# Altium integrated library TI Power Management DC-DC Controller (External Switch).IntLib: 349 symbols (part 8 of 28)
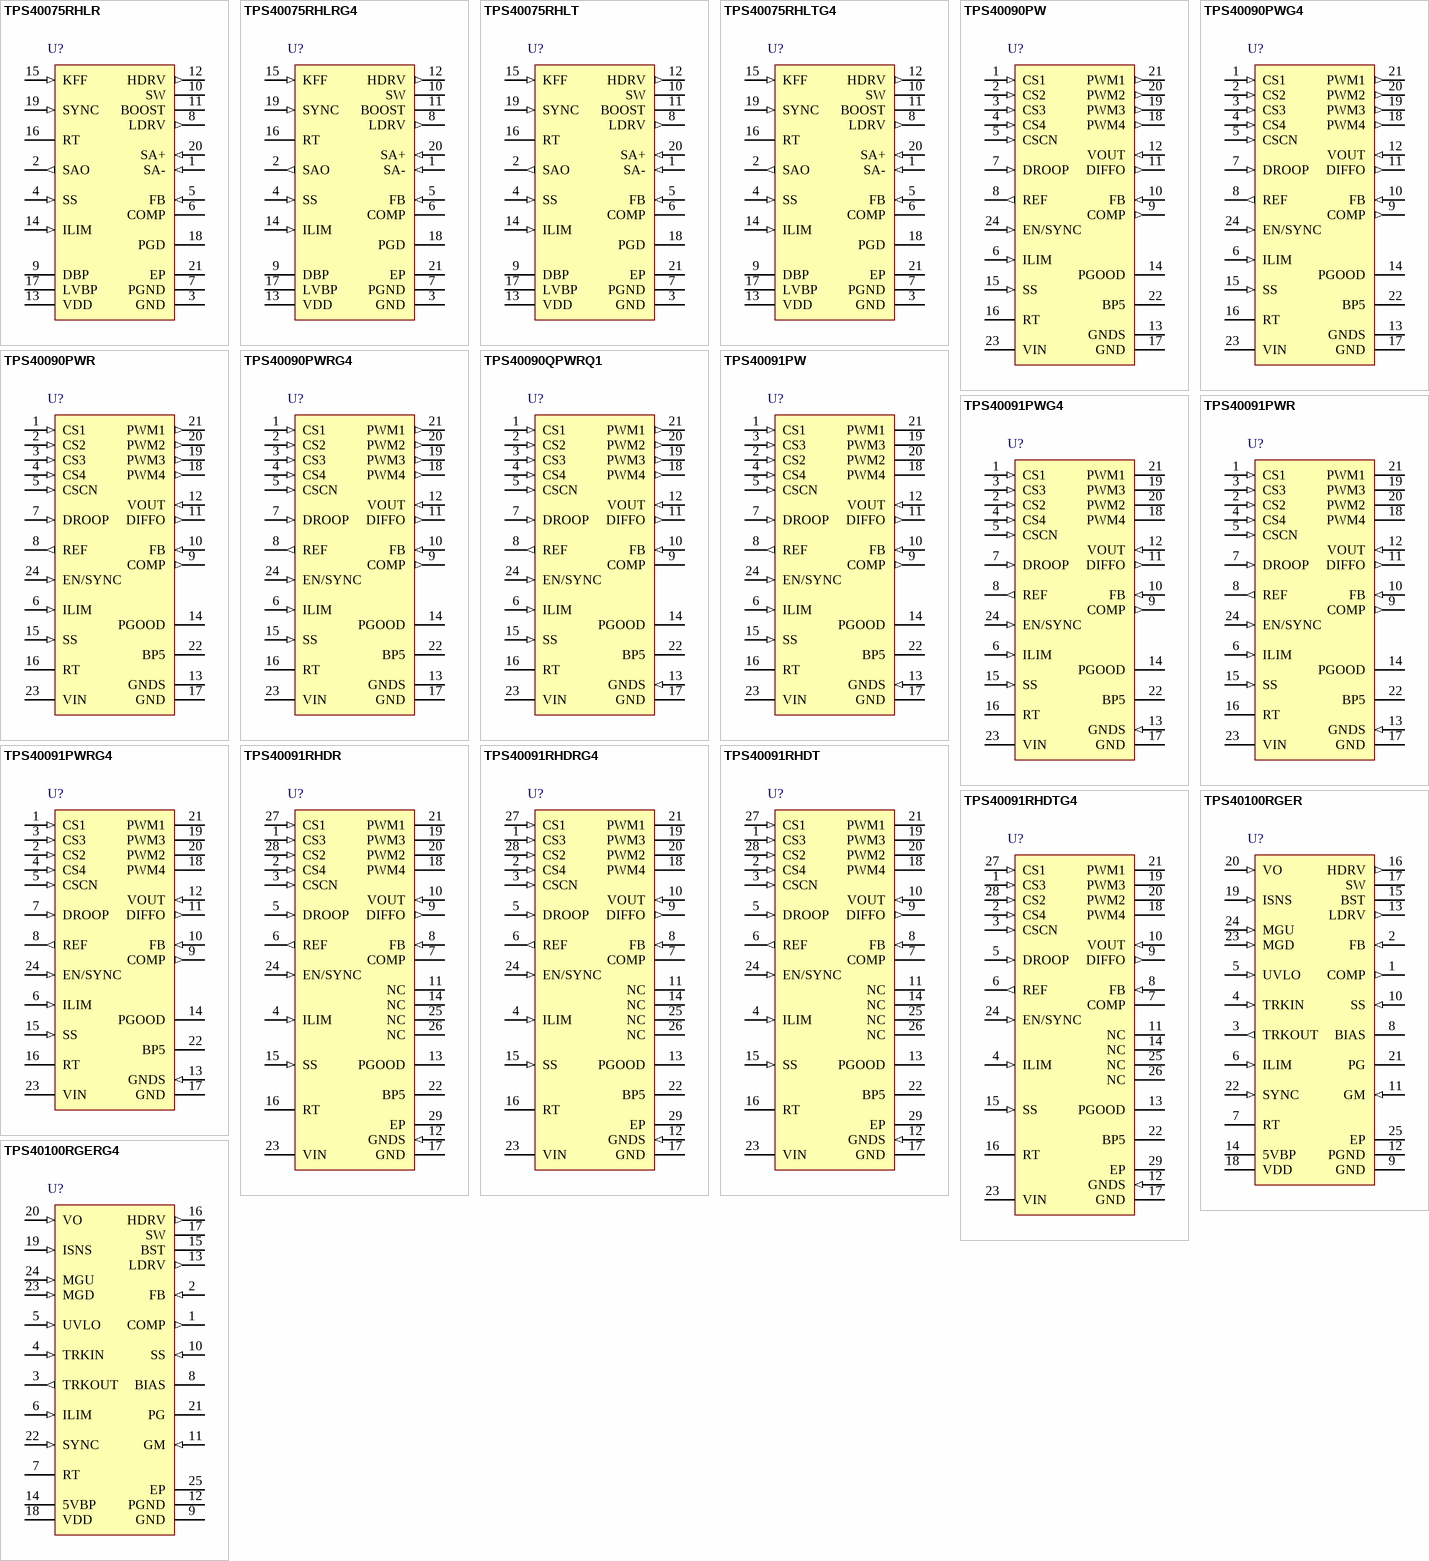
[diagram p21: symbols TPS40075RHLR to TPS40100RGERG4]

## TPS40090PW
designator U?
4 Channel Multiphase Buck DC / DC Controller, 87.5 % Duty Cycle, 4.5 to 15 V, -40 to 85 degC, 24-pin TSSOP (PW), Green (RoHS & no Sb/Br); Manufacturer: Texas Instruments; PartNumber: TPS40090PW; Duty Cycle(Max)(%): 87.5; Iout(Max)(A): 120; Regulated Outputs(#): 1; SubFamily: Multiple-Output Switching Controller; Switching Frequency(Max)(kHz): 1000; Synchronous Rectification: TRUE; Vin(Max)(V): 15; Vin(Min)(V): 4.5; Vout(Max)(V): 3.3; Vout(Min)(V): 0.7; DatasheetVersion: SLUS578B; PackageVersion: revG, Feb-2011; PackageReference: PW24; PackageDescription: 24-Pin Thin Small Outline Package 0.65 mm Pitch; Supplier 1: Digi-Key; Supplier Part Number 1: 296-15881-5-ND; Supplier 2: Newark; Supplier Part Number 2: 87H2885; Supplier 3: Mouser; Supplier Part Number 3: 595-TPS40090PW; Eco-Plan: Green (RoHS & no Sb/Br); Topology: Multiphase; Mounting Technology: Surface Mount; Code_JEDEC: MO-153; ComponentLink1Description: Datasheet; ComponentLink1URL: http://www.ti.com/general/docs/lit/getliterature.tsp?genericPartNumber=TPS40090&fileType=pdf; ComponentLink2Description: Package Specification; ComponentLink2URL: http://www.ti.com/litv/pdf/mpds177g
footprint PW24_N (TSOP, 24-Leads, Body 7.8x4.4mm, Pitch 0.65mm, IPC Medium Density)
footprint PW24_L (TSOP, 24-Leads, Body 7.8x4.4mm, Pitch 0.65mm, IPC High Density)
footprint PW24_M (TSOP, 24-Leads, Body 7.8x4.4mm, Pitch 0.65mm, IPC Low Density)
pins: 1 CS1 (in) "Used to sense the inductor current in the phases. Inductor current can be sensed with an external current sense resistor or by using an external circuit and the inductor's DC resistance. They are also used for overcurrent (See Datasheet)", 2 CS2 (in) "Used to sense the inductor current in the phases. Inductor current can be sensed with an external current sense resistor or by using an external circuit and the inductor's DC resistance. They are also used for overcurrent (See Datasheet)", 3 CS3 (in) "Used to sense the inductor current in the phases. Inductor current can be sensed with an external current sense resistor or by using an external circuit and the inductor's DC resistance. They are also used for overcurrent (See Datasheet)", 4 CS4 (in) "Used to sense the inductor current in the phases. Inductor current can be sensed with an external current sense resistor or by using an external circuit and the inductor's DC resistance. They are also used for overcurrent (See Datasheet)", 5 CSCN (in) "Common point of current sense resistors or filter inductors", 6 ILIM (in) "Used to set the cycle-by-cycle current limit threshold. If ILIM threshold is reached, the PWM cycle is terminated and the converter delivers limited current to the output. Under these conditions the undervoltage threshold is (See Datasheet)", 7 DROOP (in) "Used to program droop function. A resistor between this pin and the REF pin sets the desired droop value.", 8 REF (out) "Output of an internal 0.7-V reference voltage.", 9 COMP (out) "Output of the error amplifier. The voltage at this pin determines the duty cycle for the PWM.", 10 FB (in) "Inverting input of the error amplifier. In closed loop operation, the voltage at this pin is the internal reference level of 700 mV. This pin is also used for the PGOOD and OVP comparators.", 11 DIFFO (out) "Output of the differential amplifier. The voltage at this pin represents the true output voltage without drops that result from high current in the PCB traces", 12 VOUT (in) "Noninverting input of the differential amplifier. This pin should be connected to VOUT at the point of load.", 13 GNDS (power) "Inverting input of the differential amplifier. This pin should be connected to ground at the point of load.", 14 PGOOD (oc) "Power good indicator of the output voltage. This open-drain output connects to the supply via an external resistor.", 15 SS (in) "Provides user programmable soft-start by means of a capacitor connected to the pin", 16 RT "Connecting a resistor from this pin to ground sets the oscillator frequency.", 17 GND (power) "Ground connection to the device.", 18 PWM4 (out) "Phase shifted PWM outputs which control the external drivers. The high output signal commands a PWM cycle. The low output signal commands controlled conduction of the synchronous rectifiers. These pins are also used to (See Datasheet)", 19 PWM3 (out) "Phase shifted PWM outputs which control the external drivers. The high output signal commands a PWM cycle. The low output signal commands controlled conduction of the synchronous rectifiers. These pins are also used to (See Datasheet)", 20 PWM2 (out) "Phase shifted PWM outputs which control the external drivers. The high output signal commands a PWM cycle. The low output signal commands controlled conduction of the synchronous rectifiers. These pins are also used to (See Datasheet)", 21 PWM1 (out) "Phase shifted PWM outputs which control the external drivers. The high output signal commands a PWM cycle. The low output signal commands controlled conduction of the synchronous rectifiers. These pins are also used to (See Datasheet)", 22 BP5 (power) "Output of an internal 5V regulator. A 4.7-uF capacitor should be connected from this pin to ground. For 5V applications, this pin should be connected to VDD.", 23 VIN (power) "Power input for the chip. De-coupling of this pin is required.", 24 EN/SYNC (in) "A logic high signal on this input enables the controller operation. A pulsing signal to this pin synchronizes the main oscillator to the rising edge of an external clock source. These pulses must be of higher frequency than (See Datasheet)"

## TPS40090PWG4
designator U?
4 Channel Multiphase Buck DC / DC Controller, 87.5 % Duty Cycle, 4.5 to 15 V, -40 to 85 degC, 24-pin TSSOP (PW), Green (RoHS & no Sb/Br); Manufacturer: Texas Instruments; PartNumber: TPS40090PWG4; Duty Cycle(Max)(%): 87.5; Iout(Max)(A): 120; Regulated Outputs(#): 1; SubFamily: Multiple-Output Switching Controller; Switching Frequency(Max)(kHz): 1000; Synchronous Rectification: TRUE; Vin(Max)(V): 15; Vin(Min)(V): 4.5; Vout(Max)(V): 3.3; Vout(Min)(V): 0.7; DatasheetVersion: SLUS578B; PackageVersion: revG, Feb-2011; PackageReference: PW24; PackageDescription: 24-Pin Thin Small Outline Package 0.65 mm Pitch; Supplier 1: Digi-Key; Supplier Part Number 1: TPS40090PWG4-ND; Supplier 2: Newark; Supplier Part Number 2: 28M7817; Supplier 3: Mouser; Supplier Part Number 3: 595-TPS40090PWG4; Eco-Plan: Green (RoHS & no Sb/Br); Topology: Multiphase; Mounting Technology: Surface Mount; Code_JEDEC: MO-153; ComponentLink1Description: Datasheet; ComponentLink1URL: http://www.ti.com/general/docs/lit/getliterature.tsp?genericPartNumber=TPS40090&fileType=pdf; ComponentLink2Description: Package Specification; ComponentLink2URL: http://www.ti.com/litv/pdf/mpds177g
footprint PW24_N (TSOP, 24-Leads, Body 7.8x4.4mm, Pitch 0.65mm, IPC Medium Density)
footprint PW24_L (TSOP, 24-Leads, Body 7.8x4.4mm, Pitch 0.65mm, IPC High Density)
footprint PW24_M (TSOP, 24-Leads, Body 7.8x4.4mm, Pitch 0.65mm, IPC Low Density)
pins: 1 CS1 (in) "Used to sense the inductor current in the phases. Inductor current can be sensed with an external current sense resistor or by using an external circuit and the inductor's DC resistance. They are also used for overcurrent (See Datasheet)", 2 CS2 (in) "Used to sense the inductor current in the phases. Inductor current can be sensed with an external current sense resistor or by using an external circuit and the inductor's DC resistance. They are also used for overcurrent (See Datasheet)", 3 CS3 (in) "Used to sense the inductor current in the phases. Inductor current can be sensed with an external current sense resistor or by using an external circuit and the inductor's DC resistance. They are also used for overcurrent (See Datasheet)", 4 CS4 (in) "Used to sense the inductor current in the phases. Inductor current can be sensed with an external current sense resistor or by using an external circuit and the inductor's DC resistance. They are also used for overcurrent (See Datasheet)", 5 CSCN (in) "Common point of current sense resistors or filter inductors", 6 ILIM (in) "Used to set the cycle-by-cycle current limit threshold. If ILIM threshold is reached, the PWM cycle is terminated and the converter delivers limited current to the output. Under these conditions the undervoltage threshold is (See Datasheet)", 7 DROOP (in) "Used to program droop function. A resistor between this pin and the REF pin sets the desired droop value.", 8 REF (out) "Output of an internal 0.7-V reference voltage.", 9 COMP (out) "Output of the error amplifier. The voltage at this pin determines the duty cycle for the PWM.", 10 FB (in) "Inverting input of the error amplifier. In closed loop operation, the voltage at this pin is the internal reference level of 700 mV. This pin is also used for the PGOOD and OVP comparators.", 11 DIFFO (out) "Output of the differential amplifier. The voltage at this pin represents the true output voltage without drops that result from high current in the PCB traces", 12 VOUT (in) "Noninverting input of the differential amplifier. This pin should be connected to VOUT at the point of load.", 13 GNDS (power) "Inverting input of the differential amplifier. This pin should be connected to ground at the point of load.", 14 PGOOD (oc) "Power good indicator of the output voltage. This open-drain output connects to the supply via an external resistor.", 15 SS (in) "Provides user programmable soft-start by means of a capacitor connected to the pin", 16 RT "Connecting a resistor from this pin to ground sets the oscillator frequency.", 17 GND (power) "Ground connection to the device.", 18 PWM4 (out) "Phase shifted PWM outputs which control the external drivers. The high output signal commands a PWM cycle. The low output signal commands controlled conduction of the synchronous rectifiers. These pins are also used to (See Datasheet)", 19 PWM3 (out) "Phase shifted PWM outputs which control the external drivers. The high output signal commands a PWM cycle. The low output signal commands controlled conduction of the synchronous rectifiers. These pins are also used to (See Datasheet)", 20 PWM2 (out) "Phase shifted PWM outputs which control the external drivers. The high output signal commands a PWM cycle. The low output signal commands controlled conduction of the synchronous rectifiers. These pins are also used to (See Datasheet)", 21 PWM1 (out) "Phase shifted PWM outputs which control the external drivers. The high output signal commands a PWM cycle. The low output signal commands controlled conduction of the synchronous rectifiers. These pins are also used to (See Datasheet)", 22 BP5 (power) "Output of an internal 5V regulator. A 4.7-uF capacitor should be connected from this pin to ground. For 5V applications, this pin should be connected to VDD.", 23 VIN (power) "Power input for the chip. De-coupling of this pin is required.", 24 EN/SYNC (in) "A logic high signal on this input enables the controller operation. A pulsing signal to this pin synchronizes the main oscillator to the rising edge of an external clock source. These pulses must be of higher frequency than (See Datasheet)"

## TPS40090PWR
designator U?
4 Channel Multiphase Buck DC / DC Controller, 87.5 % Duty Cycle, 4.5 to 15 V, -40 to 85 degC, 24-pin TSSOP (PW), Green (RoHS & no Sb/Br); Manufacturer: Texas Instruments; PartNumber: TPS40090PWR; Duty Cycle(Max)(%): 87.5; Iout(Max)(A): 120; Regulated Outputs(#): 1; SubFamily: Multiple-Output Switching Controller; Switching Frequency(Max)(kHz): 1000; Synchronous Rectification: TRUE; Vin(Max)(V): 15; Vin(Min)(V): 4.5; Vout(Max)(V): 3.3; Vout(Min)(V): 0.7; DatasheetVersion: SLUS578B; PackageVersion: revG, Feb-2011; PackageReference: PW24; PackageDescription: 24-Pin Thin Small Outline Package 0.65 mm Pitch; Supplier 1: Digi-Key; Supplier Part Number 1: TPS40090PWR-ND; Supplier 2: Newark; Supplier Part Number 2: 87H2886; Supplier 3: Mouser; Supplier Part Number 3: 595-TPS40090PWR; Eco-Plan: Green (RoHS & no Sb/Br); Topology: Multiphase; Mounting Technology: Surface Mount; Code_JEDEC: MO-153; ComponentLink1Description: Datasheet; ComponentLink1URL: http://www.ti.com/general/docs/lit/getliterature.tsp?genericPartNumber=TPS40090&fileType=pdf; ComponentLink2Description: Package Specification; ComponentLink2URL: http://www.ti.com/litv/pdf/mpds177g
footprint PW24_N (TSOP, 24-Leads, Body 7.8x4.4mm, Pitch 0.65mm, IPC Medium Density)
footprint PW24_L (TSOP, 24-Leads, Body 7.8x4.4mm, Pitch 0.65mm, IPC High Density)
footprint PW24_M (TSOP, 24-Leads, Body 7.8x4.4mm, Pitch 0.65mm, IPC Low Density)
pins: 1 CS1 (in) "Used to sense the inductor current in the phases. Inductor current can be sensed with an external current sense resistor or by using an external circuit and the inductor's DC resistance. They are also used for overcurrent (See Datasheet)", 2 CS2 (in) "Used to sense the inductor current in the phases. Inductor current can be sensed with an external current sense resistor or by using an external circuit and the inductor's DC resistance. They are also used for overcurrent (See Datasheet)", 3 CS3 (in) "Used to sense the inductor current in the phases. Inductor current can be sensed with an external current sense resistor or by using an external circuit and the inductor's DC resistance. They are also used for overcurrent (See Datasheet)", 4 CS4 (in) "Used to sense the inductor current in the phases. Inductor current can be sensed with an external current sense resistor or by using an external circuit and the inductor's DC resistance. They are also used for overcurrent (See Datasheet)", 5 CSCN (in) "Common point of current sense resistors or filter inductors", 6 ILIM (in) "Used to set the cycle-by-cycle current limit threshold. If ILIM threshold is reached, the PWM cycle is terminated and the converter delivers limited current to the output. Under these conditions the undervoltage threshold is (See Datasheet)", 7 DROOP (in) "Used to program droop function. A resistor between this pin and the REF pin sets the desired droop value.", 8 REF (out) "Output of an internal 0.7-V reference voltage.", 9 COMP (out) "Output of the error amplifier. The voltage at this pin determines the duty cycle for the PWM.", 10 FB (in) "Inverting input of the error amplifier. In closed loop operation, the voltage at this pin is the internal reference level of 700 mV. This pin is also used for the PGOOD and OVP comparators.", 11 DIFFO (out) "Output of the differential amplifier. The voltage at this pin represents the true output voltage without drops that result from high current in the PCB traces", 12 VOUT (in) "Noninverting input of the differential amplifier. This pin should be connected to VOUT at the point of load.", 13 GNDS (power) "Inverting input of the differential amplifier. This pin should be connected to ground at the point of load.", 14 PGOOD (oc) "Power good indicator of the output voltage. This open-drain output connects to the supply via an external resistor.", 15 SS (in) "Provides user programmable soft-start by means of a capacitor connected to the pin", 16 RT "Connecting a resistor from this pin to ground sets the oscillator frequency.", 17 GND (power) "Ground connection to the device.", 18 PWM4 (out) "Phase shifted PWM outputs which control the external drivers. The high output signal commands a PWM cycle. The low output signal commands controlled conduction of the synchronous rectifiers. These pins are also used to (See Datasheet)", 19 PWM3 (out) "Phase shifted PWM outputs which control the external drivers. The high output signal commands a PWM cycle. The low output signal commands controlled conduction of the synchronous rectifiers. These pins are also used to (See Datasheet)", 20 PWM2 (out) "Phase shifted PWM outputs which control the external drivers. The high output signal commands a PWM cycle. The low output signal commands controlled conduction of the synchronous rectifiers. These pins are also used to (See Datasheet)", 21 PWM1 (out) "Phase shifted PWM outputs which control the external drivers. The high output signal commands a PWM cycle. The low output signal commands controlled conduction of the synchronous rectifiers. These pins are also used to (See Datasheet)", 22 BP5 (power) "Output of an internal 5V regulator. A 4.7-uF capacitor should be connected from this pin to ground. For 5V applications, this pin should be connected to VDD.", 23 VIN (power) "Power input for the chip. De-coupling of this pin is required.", 24 EN/SYNC (in) "A logic high signal on this input enables the controller operation. A pulsing signal to this pin synchronizes the main oscillator to the rising edge of an external clock source. These pulses must be of higher frequency than (See Datasheet)"

## TPS40090PWRG4
designator U?
4 Channel Multiphase Buck DC / DC Controller, 87.5 % Duty Cycle, 4.5 to 15 V, -40 to 85 degC, 24-pin TSSOP (PW), Green (RoHS & no Sb/Br); Manufacturer: Texas Instruments; PartNumber: TPS40090PWRG4; Duty Cycle(Max)(%): 87.5; Iout(Max)(A): 120; Regulated Outputs(#): 1; SubFamily: Multiple-Output Switching Controller; Switching Frequency(Max)(kHz): 1000; Synchronous Rectification: TRUE; Vin(Max)(V): 15; Vin(Min)(V): 4.5; Vout(Max)(V): 3.3; Vout(Min)(V): 0.7; DatasheetVersion: SLUS578B; PackageVersion: revG, Feb-2011; PackageReference: PW24; PackageDescription: 24-Pin Thin Small Outline Package 0.65 mm Pitch; Supplier 1: Digi-Key; Supplier Part Number 1: TPS40090PWRG4-ND; Supplier 2: Newark; Supplier Part Number 2: 54K1658; Supplier 3: Mouser; Supplier Part Number 3: 595-TPS40090PWRG4; Eco-Plan: Green (RoHS & no Sb/Br); Topology: Multiphase; Mounting Technology: Surface Mount; Code_JEDEC: MO-153; ComponentLink1Description: Datasheet; ComponentLink1URL: http://www.ti.com/general/docs/lit/getliterature.tsp?genericPartNumber=TPS40090&fileType=pdf; ComponentLink2Description: Package Specification; ComponentLink2URL: http://www.ti.com/litv/pdf/mpds177g
footprint PW24_N (TSOP, 24-Leads, Body 7.8x4.4mm, Pitch 0.65mm, IPC Medium Density)
footprint PW24_L (TSOP, 24-Leads, Body 7.8x4.4mm, Pitch 0.65mm, IPC High Density)
footprint PW24_M (TSOP, 24-Leads, Body 7.8x4.4mm, Pitch 0.65mm, IPC Low Density)
pins: 1 CS1 (in) "Used to sense the inductor current in the phases. Inductor current can be sensed with an external current sense resistor or by using an external circuit and the inductor's DC resistance. They are also used for overcurrent (See Datasheet)", 2 CS2 (in) "Used to sense the inductor current in the phases. Inductor current can be sensed with an external current sense resistor or by using an external circuit and the inductor's DC resistance. They are also used for overcurrent (See Datasheet)", 3 CS3 (in) "Used to sense the inductor current in the phases. Inductor current can be sensed with an external current sense resistor or by using an external circuit and the inductor's DC resistance. They are also used for overcurrent (See Datasheet)", 4 CS4 (in) "Used to sense the inductor current in the phases. Inductor current can be sensed with an external current sense resistor or by using an external circuit and the inductor's DC resistance. They are also used for overcurrent (See Datasheet)", 5 CSCN (in) "Common point of current sense resistors or filter inductors", 6 ILIM (in) "Used to set the cycle-by-cycle current limit threshold. If ILIM threshold is reached, the PWM cycle is terminated and the converter delivers limited current to the output. Under these conditions the undervoltage threshold is (See Datasheet)", 7 DROOP (in) "Used to program droop function. A resistor between this pin and the REF pin sets the desired droop value.", 8 REF (out) "Output of an internal 0.7-V reference voltage.", 9 COMP (out) "Output of the error amplifier. The voltage at this pin determines the duty cycle for the PWM.", 10 FB (in) "Inverting input of the error amplifier. In closed loop operation, the voltage at this pin is the internal reference level of 700 mV. This pin is also used for the PGOOD and OVP comparators.", 11 DIFFO (out) "Output of the differential amplifier. The voltage at this pin represents the true output voltage without drops that result from high current in the PCB traces", 12 VOUT (in) "Noninverting input of the differential amplifier. This pin should be connected to VOUT at the point of load.", 13 GNDS (power) "Inverting input of the differential amplifier. This pin should be connected to ground at the point of load.", 14 PGOOD (oc) "Power good indicator of the output voltage. This open-drain output connects to the supply via an external resistor.", 15 SS (in) "Provides user programmable soft-start by means of a capacitor connected to the pin", 16 RT "Connecting a resistor from this pin to ground sets the oscillator frequency.", 17 GND (power) "Ground connection to the device.", 18 PWM4 (out) "Phase shifted PWM outputs which control the external drivers. The high output signal commands a PWM cycle. The low output signal commands controlled conduction of the synchronous rectifiers. These pins are also used to (See Datasheet)", 19 PWM3 (out) "Phase shifted PWM outputs which control the external drivers. The high output signal commands a PWM cycle. The low output signal commands controlled conduction of the synchronous rectifiers. These pins are also used to (See Datasheet)", 20 PWM2 (out) "Phase shifted PWM outputs which control the external drivers. The high output signal commands a PWM cycle. The low output signal commands controlled conduction of the synchronous rectifiers. These pins are also used to (See Datasheet)", 21 PWM1 (out) "Phase shifted PWM outputs which control the external drivers. The high output signal commands a PWM cycle. The low output signal commands controlled conduction of the synchronous rectifiers. These pins are also used to (See Datasheet)", 22 BP5 (power) "Output of an internal 5V regulator. A 4.7-uF capacitor should be connected from this pin to ground. For 5V applications, this pin should be connected to VDD.", 23 VIN (power) "Power input for the chip. De-coupling of this pin is required.", 24 EN/SYNC (in) "A logic high signal on this input enables the controller operation. A pulsing signal to this pin synchronizes the main oscillator to the rising edge of an external clock source. These pulses must be of higher frequency than (See Datasheet)"

## TPS40090QPWRQ1
designator U?
Automotive Catalog 4 Channel Multiphase Buck DC / DC Controller, 4.5 to 15 V, -40 to 125 degC, 24-pin TSSOP (PW), Green (RoHS & no Sb/Br); Manufacturer: Texas Instruments; PartNumber: TPS40090QPWRQ1; Iout(Max)(A): 120; Regulated Outputs(#): 1; SubFamily: Step-Down Controller; Switching Frequency(Max)(kHz): 1000; Synchronous Rectification: TRUE; Vin(Max)(V): 15; Vin(Min)(V): 4.5; Vout(Max)(V): 3.3; Vout(Min)(V): 0.7; DatasheetVersion: SLUS845C; PackageVersion: revG, Feb-2011; PackageReference: PW24; PackageDescription: 24-Pin Thin Small Outline Package 0.65 mm Pitch; Supplier 1: Digi-Key; Supplier Part Number 1: 296-23570-2-ND; Supplier 2: Digi-Key; Supplier Part Number 2: 296-23570-1-ND; Supplier 3: Digi-Key; Supplier Part Number 3: 296-23570-6-ND; Supplier 4: Newark; Supplier Part Number 4: 03P5183; Supplier 5: Mouser; Supplier Part Number 5: 595-TPS40090QPWRQ1; Eco-Plan: Green (RoHS & no Sb/Br); Topology: Multiphase; Mounting Technology: Surface Mount; Code_JEDEC: MO-153; ComponentLink1Description: Datasheet; ComponentLink1URL: http://www.ti.com/general/docs/lit/getliterature.tsp?genericPartNumber=TPS40090-Q1&fileType=pdf; ComponentLink2Description: Package Specification; ComponentLink2URL: http://www.ti.com/litv/pdf/mpds177g
footprint PW24_N (TSOP, 24-Leads, Body 7.8x4.4mm, Pitch 0.65mm, IPC Medium Density)
footprint PW24_L (TSOP, 24-Leads, Body 7.8x4.4mm, Pitch 0.65mm, IPC High Density)
footprint PW24_M (TSOP, 24-Leads, Body 7.8x4.4mm, Pitch 0.65mm, IPC Low Density)
pins: 1 CS1 (in) "Used to sense the inductor current in the phases. Inductor current can be sensed with an external current sense resistor or by using an external circuit and the inductor's DC resistance. They are also used for overcurrent (See Datasheet)", 2 CS2 (in) "Used to sense the inductor current in the phases. Inductor current can be sensed with an external current sense resistor or by using an external circuit and the inductor's DC resistance. They are also used for overcurrent (See Datasheet)", 3 CS3 (in) "Used to sense the inductor current in the phases. Inductor current can be sensed with an external current sense resistor or by using an external circuit and the inductor's DC resistance. They are also used for overcurrent (See Datasheet)", 4 CS4 (in) "Used to sense the inductor current in the phases. Inductor current can be sensed with an external current sense resistor or by using an external circuit and the inductor's DC resistance. They are also used for overcurrent (See Datasheet)", 5 CSCN (in) "Common point of current sense resistors or filter inductors", 6 ILIM (in) "Used to set the cycle-by-cycle current limit threshold. If ILIM threshold is reached, the PWM cycle is terminated and the converter delivers limited current to the output. Under these conditions the undervoltage threshold is (See Datasheet)", 7 DROOP (in) "Used to program droop function. A resistor between this pin and the REF pin sets the desired droop value.", 8 REF (out) "Output of an internal 0.7-V reference voltage.", 9 COMP "Output of the error amplifier. The voltage at this pin determines the duty cycle for the PWM.", 10 FB (in) "Inverting input of the error amplifier. In closed loop operation, the voltage at this pin is the internal reference level of 700 mV. This pin is also used for the PGOOD and OVP comparators.", 11 DIFFO (out) "Output of the differential amplifier. The voltage at this pin represents the true output voltage without drops that result from high current in the PCB traces", 12 VOUT (in) "Noninverting input of the differential amplifier. This pin should be connected to VOUT at the point of load.", 13 GNDS (in) "Inverting input of the differential amplifier. This pin should be connected to ground at the point of load.", 14 PGOOD (oc) "Power good indicator of the output voltage. This open-drain output connects to the supply via an external resistor.", 15 SS (in) "Provides user programmable soft-start by means of a capacitor connected to the pin.", 16 RT "Connecting a resistor from this pin to ground sets the oscillator frequency.", 17 GND (power) "Ground connection to the device", 18 PWM4 (out) "Phase shifted PWM outputs which control the external drivers. The high output signal commands a PWM cycle. The low output signal commands controlled conduction of the synchronous rectifiers. These pins are also used to (See Datasheet)", 19 PWM3 (out) "Phase shifted PWM outputs which control the external drivers. The high output signal commands a PWM cycle. The low output signal commands controlled conduction of the synchronous rectifiers. These pins are also used to (See Datasheet)", 20 PWM2 (out) "Phase shifted PWM outputs which control the external drivers. The high output signal commands a PWM cycle. The low output signal commands controlled conduction of the synchronous rectifiers. These pins are also used to (See Datasheet)", 21 PWM1 (out) "Phase shifted PWM outputs which control the external drivers. The high output signal commands a PWM cycle. The low output signal commands controlled conduction of the synchronous rectifiers. These pins are also used to (See Datasheet)", 22 BP5 (power) "Output of an internal 5-V regulator. A 4.7-uF capacitor should be connected from this pin to ground. For 5-V applications, this pin should be connected to VDD.", 23 VIN (power) "Power input for the chip. Decoupling of this pin is required.", 24 EN/SYNC (in) "A logic high signal on this input enables the controller operation. A pulsing signal to this pin synchronizes the main oscillator to the rising edge of an external clock source. These pulses must be of higher frequency than (See Datasheet)"

## TPS40091PW
designator U?
4 Channel Multiphase Buck DC / DC Controller with Tri-state, 87.5 % Duty Cycle, 4.5 to 15 V, -40 to 85 degC, 24-pin TSSOP (PW), Green (RoHS & no Sb/Br); Manufacturer: Texas Instruments; PartNumber: TPS40091PW; Duty Cycle(Max)(%): 87.5; Iout(Max)(A): 120; Regulated Outputs(#): 1; SubFamily: Multiple-Output Switching Controller; Switching Frequency(Max)(kHz): 1000; Synchronous Rectification: TRUE; Vin(Max)(V): 15; Vin(Min)(V): 4.5; Vout(Max)(V): 3.3; Vout(Min)(V): 0.7; DatasheetVersion: SLUS578B; PackageVersion: revG, Feb-2011; PackageReference: PW24; PackageDescription: 24-Pin Thin Small Outline Package 0.65 mm Pitch; Supplier 1: Digi-Key; Supplier Part Number 1: 296-17212-5-ND; Supplier 2: Newark; Supplier Part Number 2: 21J9217; Supplier 3: Mouser; Supplier Part Number 3: 595-TPS40091PW; Eco-Plan: Green (RoHS & no Sb/Br); Topology: Multiphase; Mounting Technology: Surface Mount; Code_JEDEC: MO-153; ComponentLink1Description: Datasheet; ComponentLink1URL: http://www.ti.com/general/docs/lit/getliterature.tsp?genericPartNumber=TPS40091&fileType=pdf; ComponentLink2Description: Package Specification; ComponentLink2URL: http://www.ti.com/litv/pdf/mpds177g
footprint PW24_N (TSOP, 24-Leads, Body 7.8x4.4mm, Pitch 0.65mm, IPC Medium Density)
footprint PW24_L (TSOP, 24-Leads, Body 7.8x4.4mm, Pitch 0.65mm, IPC High Density)
footprint PW24_M (TSOP, 24-Leads, Body 7.8x4.4mm, Pitch 0.65mm, IPC Low Density)
pins: 1 CS1 (in) "Used to sense the inductor current in the phases. Inductor current can be sensed with an external current sense resistor or by using an external circuit and the inductor's DC resistance. They are also used for overcurrent (See Datasheet)", 2 CS2 (in) "Used to sense the inductor current in the phases. Inductor current can be sensed with an external current sense resistor or by using an external circuit and the inductor's DC resistance. They are also used for overcurrent (See Datasheet)", 3 CS3 (in) "Used to sense the inductor current in the phases. Inductor current can be sensed with an external current sense resistor or by using an external circuit and the inductor's DC resistance. They are also used for overcurrent (See Datasheet)", 4 CS4 (in) "Used to sense the inductor current in the phases. Inductor current can be sensed with an external current sense resistor or by using an external circuit and the inductor's DC resistance. They are also used for overcurrent (See Datasheet)", 5 CSCN (in) "Common point of current sense resistors or filter inductors", 6 ILIM (in) "Used to set the cycle-by-cycle current limit threshold. If ILIM threshold is reached, the PWM cycle is terminated and the converter delivers limited current to the output. Under these conditions the undervoltage threshold is (See Datasheet)", 7 DROOP (in) "Used to program droop function. A resistor between this pin and the REF pin sets the desired droop value.", 8 REF (out) "Output of an internal 0.7-V reference voltage.", 9 COMP (out) "Output of the error amplifier. The voltage at this pin determines the duty cycle for the PWM.", 10 FB (in) "Inverting input of the error amplifier. In closed loop operation, the voltage at this pin is the internal reference level of 700 mV. This pin is also used for the PGOOD and OVP comparators.", 11 DIFFO (out) "Output of the differential amplifier. The voltage at this pin represents the true output voltage without drops that result from high current in the PCB traces", 12 VOUT (in) "Noninverting input of the differential amplifier. This pin should be connected to VOUT at the point of load.", 13 GNDS (in) "Inverting input of the differential amplifier. This pin should be connected to ground at the point of load.", 14 PGOOD (oc) "Power good indicator of the output voltage. This open-drain output connects to the supply via an external resistor.", 15 SS (in) "Provides user programmable soft-start by means of a capacitor connected to the pin.", 16 RT "Connecting a resistor from this pin to ground sets the oscillator frequency.", 17 GND (power) "Ground connection to the device.", 18 PWM4 (hiz) "Phase shifted PWM outputs which control the external drivers. The high output signal commands a PWM cycle. The low output signal commands controlled conduction of the synchronous rectifiers. These pins are also used to (See Datasheet)", 19 PWM3 (hiz) "Phase shifted PWM outputs which control the external drivers. The high output signal commands a PWM cycle. The low output signal commands controlled conduction of the synchronous rectifiers. These pins are also used to (See Datasheet)", 20 PWM2 (hiz) "Phase shifted PWM outputs which control the external drivers. The high output signal commands a PWM cycle. The low output signal commands controlled conduction of the synchronous rectifiers. These pins are also used to (See Datasheet)", 21 PWM1 (hiz) "Phase shifted PWM outputs which control the external drivers. The high output signal commands a PWM cycle. The low output signal commands controlled conduction of the synchronous rectifiers. These pins are also used to (See Datasheet)", 22 BP5 (power) "Output of an internal 5V regulator. A 4.7-uF capacitor should be connected from this pin to ground. For 5V applications, this pin should be connected to VDD.", 23 VIN (power) "Power input for the chip. De-coupling of this pin is required.", 24 EN/SYNC (in) "A logic high signal on this input enables the controller operation. A pulsing signal to this pin synchronizes the main oscillator to the rising edge of an external clock source. These pulses must be of higher frequency than (See Datasheet)"

## TPS40091PWG4
designator U?
4 Channel Multiphase Buck DC / DC Controller with Tri-state, 87.5 % Duty Cycle, 4.5 to 15 V, -40 to 85 degC, 24-pin TSSOP (PW), Green (RoHS & no Sb/Br); Manufacturer: Texas Instruments; PartNumber: TPS40091PWG4; Duty Cycle(Max)(%): 87.5; Iout(Max)(A): 120; Regulated Outputs(#): 1; SubFamily: Multiple-Output Switching Controller; Switching Frequency(Max)(kHz): 1000; Synchronous Rectification: TRUE; Vin(Max)(V): 15; Vin(Min)(V): 4.5; Vout(Max)(V): 3.3; Vout(Min)(V): 0.7; DatasheetVersion: SLUS578B; PackageVersion: revG, Feb-2011; PackageReference: PW24; PackageDescription: 24-Pin Thin Small Outline Package 0.65 mm Pitch; Supplier 1: Digi-Key; Supplier Part Number 1: TPS40091PWG4-ND; Supplier 2: Newark; Supplier Part Number 2: 34M0168; Supplier 3: Mouser; Supplier Part Number 3: 595-TPS40091PWG4; Eco-Plan: Green (RoHS & no Sb/Br); Topology: Multiphase; Mounting Technology: Surface Mount; Code_JEDEC: MO-153; ComponentLink1Description: Datasheet; ComponentLink1URL: http://www.ti.com/general/docs/lit/getliterature.tsp?genericPartNumber=TPS40091&fileType=pdf; ComponentLink2Description: Package Specification; ComponentLink2URL: http://www.ti.com/litv/pdf/mpds177g
footprint PW24_N (TSOP, 24-Leads, Body 7.8x4.4mm, Pitch 0.65mm, IPC Medium Density)
footprint PW24_L (TSOP, 24-Leads, Body 7.8x4.4mm, Pitch 0.65mm, IPC High Density)
footprint PW24_M (TSOP, 24-Leads, Body 7.8x4.4mm, Pitch 0.65mm, IPC Low Density)
pins: 1 CS1 (in) "Used to sense the inductor current in the phases. Inductor current can be sensed with an external current sense resistor or by using an external circuit and the inductor's DC resistance. They are also used for overcurrent (See Datasheet)", 2 CS2 (in) "Used to sense the inductor current in the phases. Inductor current can be sensed with an external current sense resistor or by using an external circuit and the inductor's DC resistance. They are also used for overcurrent (See Datasheet)", 3 CS3 (in) "Used to sense the inductor current in the phases. Inductor current can be sensed with an external current sense resistor or by using an external circuit and the inductor's DC resistance. They are also used for overcurrent (See Datasheet)", 4 CS4 (in) "Used to sense the inductor current in the phases. Inductor current can be sensed with an external current sense resistor or by using an external circuit and the inductor's DC resistance. They are also used for overcurrent (See Datasheet)", 5 CSCN (in) "Common point of current sense resistors or filter inductors", 6 ILIM (in) "Used to set the cycle-by-cycle current limit threshold. If ILIM threshold is reached, the PWM cycle is terminated and the converter delivers limited current to the output. Under these conditions the undervoltage threshold is (See Datasheet)", 7 DROOP (in) "Used to program droop function. A resistor between this pin and the REF pin sets the desired droop value.", 8 REF (out) "Output of an internal 0.7-V reference voltage.", 9 COMP (out) "Output of the error amplifier. The voltage at this pin determines the duty cycle for the PWM.", 10 FB (in) "Inverting input of the error amplifier. In closed loop operation, the voltage at this pin is the internal reference level of 700 mV. This pin is also used for the PGOOD and OVP comparators.", 11 DIFFO (out) "Output of the differential amplifier. The voltage at this pin represents the true output voltage without drops that result from high current in the PCB traces", 12 VOUT (in) "Noninverting input of the differential amplifier. This pin should be connected to VOUT at the point of load.", 13 GNDS (in) "Inverting input of the differential amplifier. This pin should be connected to ground at the point of load.", 14 PGOOD (oc) "Power good indicator of the output voltage. This open-drain output connects to the supply via an external resistor.", 15 SS (in) "Provides user programmable soft-start by means of a capacitor connected to the pin.", 16 RT "Connecting a resistor from this pin to ground sets the oscillator frequency.", 17 GND (power) "Ground connection to the device.", 18 PWM4 (hiz) "Phase shifted PWM outputs which control the external drivers. The high output signal commands a PWM cycle. The low output signal commands controlled conduction of the synchronous rectifiers. These pins are also used to (See Datasheet)", 19 PWM3 (hiz) "Phase shifted PWM outputs which control the external drivers. The high output signal commands a PWM cycle. The low output signal commands controlled conduction of the synchronous rectifiers. These pins are also used to (See Datasheet)", 20 PWM2 (hiz) "Phase shifted PWM outputs which control the external drivers. The high output signal commands a PWM cycle. The low output signal commands controlled conduction of the synchronous rectifiers. These pins are also used to (See Datasheet)", 21 PWM1 (hiz) "Phase shifted PWM outputs which control the external drivers. The high output signal commands a PWM cycle. The low output signal commands controlled conduction of the synchronous rectifiers. These pins are also used to (See Datasheet)", 22 BP5 (power) "Output of an internal 5V regulator. A 4.7-uF capacitor should be connected from this pin to ground. For 5V applications, this pin should be connected to VDD.", 23 VIN (power) "Power input for the chip. De-coupling of this pin is required.", 24 EN/SYNC (in) "A logic high signal on this input enables the controller operation. A pulsing signal to this pin synchronizes the main oscillator to the rising edge of an external clock source. These pulses must be of higher frequency than (See Datasheet)"

## TPS40091PWR
designator U?
4 Channel Multiphase Buck DC / DC Controller with Tri-state, 87.5 % Duty Cycle, 4.5 to 15 V, -40 to 85 degC, 24-pin TSSOP (PW), Green (RoHS & no Sb/Br); Manufacturer: Texas Instruments; PartNumber: TPS40091PWR; Duty Cycle(Max)(%): 87.5; Iout(Max)(A): 120; Regulated Outputs(#): 1; SubFamily: Multiple-Output Switching Controller; Switching Frequency(Max)(kHz): 1000; Synchronous Rectification: TRUE; Vin(Max)(V): 15; Vin(Min)(V): 4.5; Vout(Max)(V): 3.3; Vout(Min)(V): 0.7; DatasheetVersion: SLUS578B; PackageVersion: revG, Feb-2011; PackageReference: PW24; PackageDescription: 24-Pin Thin Small Outline Package 0.65 mm Pitch; Supplier 1: Digi-Key; Supplier Part Number 1: 296-28972-2-ND; Supplier 2: Digi-Key; Supplier Part Number 2: 296-28972-1-ND; Supplier 3: Digi-Key; Supplier Part Number 3: 296-28972-6-ND; Supplier 4: Newark; Supplier Part Number 4: 21J9218; Supplier 5: Mouser; Supplier Part Number 5: 595-TPS40091PWR; Eco-Plan: Green (RoHS & no Sb/Br); Topology: Multiphase; Mounting Technology: Surface Mount; Code_JEDEC: MO-153; ComponentLink1Description: Datasheet; ComponentLink1URL: http://www.ti.com/general/docs/lit/getliterature.tsp?genericPartNumber=TPS40091&fileType=pdf; ComponentLink2Description: Package Specification; ComponentLink2URL: http://www.ti.com/litv/pdf/mpds177g
footprint PW24_N (TSOP, 24-Leads, Body 7.8x4.4mm, Pitch 0.65mm, IPC Medium Density)
footprint PW24_L (TSOP, 24-Leads, Body 7.8x4.4mm, Pitch 0.65mm, IPC High Density)
footprint PW24_M (TSOP, 24-Leads, Body 7.8x4.4mm, Pitch 0.65mm, IPC Low Density)
pins: 1 CS1 (in) "Used to sense the inductor current in the phases. Inductor current can be sensed with an external current sense resistor or by using an external circuit and the inductor's DC resistance. They are also used for overcurrent (See Datasheet)", 2 CS2 (in) "Used to sense the inductor current in the phases. Inductor current can be sensed with an external current sense resistor or by using an external circuit and the inductor's DC resistance. They are also used for overcurrent (See Datasheet)", 3 CS3 (in) "Used to sense the inductor current in the phases. Inductor current can be sensed with an external current sense resistor or by using an external circuit and the inductor's DC resistance. They are also used for overcurrent (See Datasheet)", 4 CS4 (in) "Used to sense the inductor current in the phases. Inductor current can be sensed with an external current sense resistor or by using an external circuit and the inductor's DC resistance. They are also used for overcurrent (See Datasheet)", 5 CSCN (in) "Common point of current sense resistors or filter inductors", 6 ILIM (in) "Used to set the cycle-by-cycle current limit threshold. If ILIM threshold is reached, the PWM cycle is terminated and the converter delivers limited current to the output. Under these conditions the undervoltage threshold is (See Datasheet)", 7 DROOP (in) "Used to program droop function. A resistor between this pin and the REF pin sets the desired droop value.", 8 REF (out) "Output of an internal 0.7-V reference voltage.", 9 COMP (out) "Output of the error amplifier. The voltage at this pin determines the duty cycle for the PWM.", 10 FB (in) "Inverting input of the error amplifier. In closed loop operation, the voltage at this pin is the internal reference level of 700 mV. This pin is also used for the PGOOD and OVP comparators.", 11 DIFFO (out) "Output of the differential amplifier. The voltage at this pin represents the true output voltage without drops that result from high current in the PCB traces", 12 VOUT (in) "Noninverting input of the differential amplifier. This pin should be connected to VOUT at the point of load.", 13 GNDS (in) "Inverting input of the differential amplifier. This pin should be connected to ground at the point of load.", 14 PGOOD (oc) "Power good indicator of the output voltage. This open-drain output connects to the supply via an external resistor.", 15 SS (in) "Provides user programmable soft-start by means of a capacitor connected to the pin.", 16 RT "Connecting a resistor from this pin to ground sets the oscillator frequency.", 17 GND (power) "Ground connection to the device.", 18 PWM4 (hiz) "Phase shifted PWM outputs which control the external drivers. The high output signal commands a PWM cycle. The low output signal commands controlled conduction of the synchronous rectifiers. These pins are also used to (See Datasheet)", 19 PWM3 (hiz) "Phase shifted PWM outputs which control the external drivers. The high output signal commands a PWM cycle. The low output signal commands controlled conduction of the synchronous rectifiers. These pins are also used to (See Datasheet)", 20 PWM2 (hiz) "Phase shifted PWM outputs which control the external drivers. The high output signal commands a PWM cycle. The low output signal commands controlled conduction of the synchronous rectifiers. These pins are also used to (See Datasheet)", 21 PWM1 (hiz) "Phase shifted PWM outputs which control the external drivers. The high output signal commands a PWM cycle. The low output signal commands controlled conduction of the synchronous rectifiers. These pins are also used to (See Datasheet)", 22 BP5 (power) "Output of an internal 5V regulator. A 4.7-uF capacitor should be connected from this pin to ground. For 5V applications, this pin should be connected to VDD.", 23 VIN (power) "Power input for the chip. De-coupling of this pin is required.", 24 EN/SYNC (in) "A logic high signal on this input enables the controller operation. A pulsing signal to this pin synchronizes the main oscillator to the rising edge of an external clock source. These pulses must be of higher frequency than (See Datasheet)"